# EAGLE library part LTC3531 (library custom)
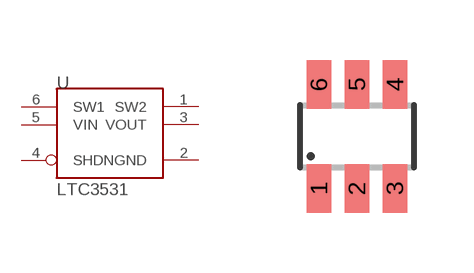
[diagram p10: symbol with the pads of TSOT23-6; footprint TSOT23-6]

Designator prefix -

## LTC3531  [TSOT23-6]
1  SW2
2  GND
3  VOUT
4  SHDN
5  VIN
6  SW1

## Footprint TSOT23-6 (pad centres in mm)
smd 0.62 x 1.22: 1 -0.95,-1.3; 2 0,-1.3; 3 0.95,-1.3; 4 0.95,1.3; 5 0,1.3; 6 -0.95,1.3